# Altium schematic symbol library SL_Capacitors_Electrolytic.SchLib: 2 symbols
Pins are listed as number, name and electrical type; pins without a type are passive.

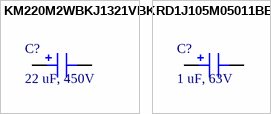
[diagram p0: symbols KM220M2WBKJ1321VBK to RD1J105M05011BB]

## KM220M2WBKJ1321VBK
designator С?, comment 22 uF, 450V
22 uF, 450V, D13xH21; Manufacturer_Name: KM220M2WBKJ1321VBK; Datasheet Link: https://static.chipdip.ru/lib/647/DOC048647683.pdf; Height: 21mm
footprint Cap_D13xH21
pins: 1, 2

## RD1J105M05011BB
designator С?, comment 1 uF, 63V
1 uF, 63V, D5xH11; Manufacturer_Name: RD1J105M05011BB; Datasheet Link: https://static.chipdip.ru/lib/954/DOC046954172.pdf; Height: 11mm
footprint Cap_D5xH11
pins: 1, 2